# EAGLE library part HS-ST60_18POS (library openplayer)
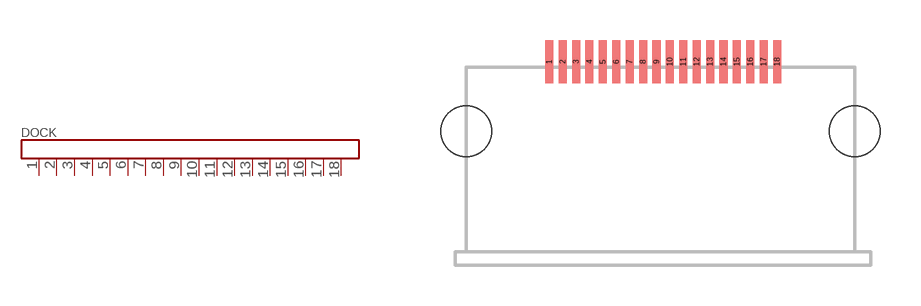
[diagram p6: symbol with the pads of HS_ST60-18POS; footprint HS_ST60-18POS]

Designator prefix DOCK

## HS-ST60_18POS  [HS_ST60-18POS]
1  P$1
2  P$2
3  P$3
4  P$4
5  P$5
6  P$6
7  P$7
8  P$8
9  P$9
10  P$10
11  P$11
12  P$12
13  P$13
14  P$14
15  P$15
16  P$16
17  P$17
18  P$18

## Footprint HS_ST60-18POS (pad centres in mm)
smd 0.3 x 1.6: 1 -4.1,3.9; 2 -3.6,3.9; 3 -3.1,3.9; 4 -2.6,3.9; 5 -2.1,3.9; 6 -1.6,3.9; 7 -1.1,3.9; 8 -0.6,3.9; 9 -0.1,3.9; 10 0.4,3.9; 11 0.9,3.9; 12 1.4,3.9; 13 1.9,3.9; 14 2.4,3.9; 15 2.9,3.9; 16 3.4,3.9; 17 3.9,3.9; 18 4.4,3.9
hole 1.9 at -7.2,1.3
hole 1.9 at 7.3,1.3